# EAGLE library part HEADER-1X6 (library bedofnails)
JTAG Header
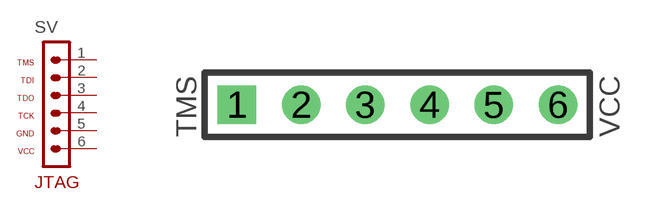
[diagram p3: symbol with the pads of HEADER-1X6; footprint HEADER-1X6]

Designator prefix SV

## HEADER-1X6  [HEADER-1X6]
1  1  pas
2  2  pas
3  3  pas
4  4  pas
5  5  pas
6  6  pas

## Footprint HEADER-1X6 (pad centres in mm)
PIN HEADER JTAG 6 Pin, 0.1" Straight
drill 1.016 square: 1 -6.35,0
drill 1.016: 2 -3.81,0; 3 -1.27,0; 4 1.27,0; 5 3.81,0; 6 6.35,0